# Altium footprint library Check-PcbLib.PcbLib: 7 footprints
Each footprint in its own frame and in the unit in brackets; x right, y up, seen from the top. Pads: shape width x height; smd on the part's side, far side on the other; paste and mask are expansions set on the pad; w line width, h text height; cw(c..) or ccw(c..) is an arc to the next point about the centre after c.
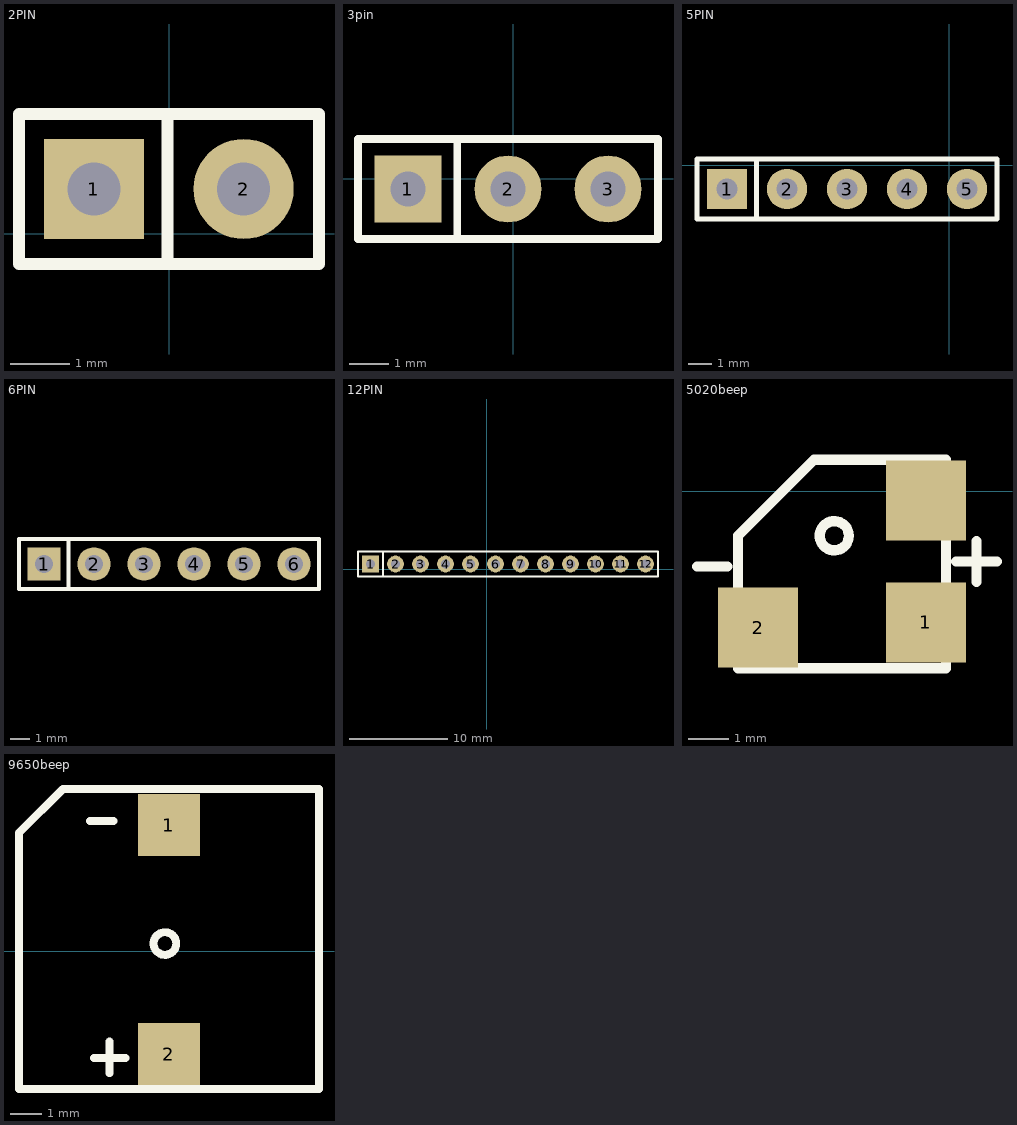
[diagram p0: the footprints below, top view; thin cyan lines are the x and y axes]

## 2PIN [mm]
pads (2):
  rect 1.7x1.7 hole 0.9: 1(-1.279,0.755)
  round 1.7 hole 0.9: 2(1.261,0.755)
Top Overlay:
  lines w0.2: -0.771,2.025 2.54,2.025 2.54,-0.515 -2.549,-0.515 -2.549,2.025 -0.644,2.025 ; -0.029,-0.495 -0.029,2.005
3D body "HDR2.54-1P.STEP": height 8.5, standoff -3, extent -0.009,-0.515 2.531,2.025
3D body "HDR2.54-1P.STEP": height 8.5, standoff -3, extent -2.549,-0.515 -0.009,2.025

## 3pin [mm]
pads (3):
  rect 1.7x1.7 hole 0.9: 1(-2.676,-0.261)
  round 1.7 hole 0.9: 2(-0.136,-0.261) 3(2.404,-0.261)
Top Overlay:
  lines w0.2: -2.168,1.009 3.674,1.009 3.674,-1.531 -3.946,-1.531 -3.946,1.009 -2.041,1.009 ; -1.426,-1.511 -1.426,0.989
3D body "HDR2.54-1P.STEP": height 8.5, standoff -3, extent 1.134,-1.531 3.674,1.009
3D body "HDR2.54-1P.STEP": height 8.5, standoff -3, extent -3.946,-1.531 -1.406,1.009
3D body "HDR2.54-1P.STEP": height 8.5, standoff -3, extent -1.406,-1.531 1.134,1.009

## 5PIN [mm]
pads (5):
  rect 1.7x1.7 hole 0.9: 1(-9.398,-1.016)
  round 1.7 hole 0.9: 2(-6.858,-1.016) 3(-4.318,-1.016) 4(-1.778,-1.016) 5(0.762,-1.016)
Top Overlay:
  lines w0.2: -8.148,-2.266 -8.148,0.234 ; -10.668,-2.286 2.032,-2.286 2.032,0.254 -8.763,0.254 -10.668,0.254 -10.668,-2.286
3D body "HDR2.54-1P.STEP": height 8.5, standoff -3, extent -0.508,-2.286 2.032,0.254
3D body "HDR2.54-1P.STEP": height 8.5, standoff -3, extent -5.588,-2.286 -3.048,0.254
3D body "HDR2.54-1P.STEP": height 8.5, standoff -3, extent -3.048,-2.286 -0.508,0.254
3D body "HDR2.54-1P.STEP": height 8.5, standoff -3, extent -10.668,-2.286 -8.128,0.254
3D body "HDR2.54-1P.STEP": height 8.5, standoff -3, extent -8.128,-2.286 -5.588,0.254

## 6PIN [mm]
pads (6):
  rect 1.7x1.7 hole 0.9: 1(-317.373,-38.862)
  round 1.7 hole 0.9: 2(-314.833,-38.862) 3(-312.293,-38.862) 4(-309.753,-38.862) 5(-307.213,-38.862) 6(-304.673,-38.862)
Top Overlay:
  lines w0.2: -316.123,-40.112 -316.123,-37.612 ; -318.643,-40.132 -303.403,-40.132 -303.403,-37.592 -316.738,-37.592 -318.643,-37.592 -318.643,-40.132
3D body "HDR2.54-1P.STEP": height 8.5, standoff -3, extent -305.943,-40.132 -303.403,-37.592
3D body "HDR2.54-1P.STEP": height 8.5, standoff -3, extent -308.483,-40.132 -305.943,-37.592
3D body "HDR2.54-1P.STEP": height 8.5, standoff -3, extent -313.563,-40.132 -311.023,-37.592
3D body "HDR2.54-1P.STEP": height 8.5, standoff -3, extent -311.023,-40.132 -308.483,-37.592
3D body "HDR2.54-1P.STEP": height 8.5, standoff -3, extent -318.643,-40.132 -316.103,-37.592
3D body "HDR2.54-1P.STEP": height 8.5, standoff -3, extent -316.103,-40.132 -313.563,-37.592

## 12PIN [mm]
pads (12):
  rect 1.7x1.7 hole 0.9: 1(-11.811,0.508)
  round 1.7 hole 0.9: 2(-9.271,0.508) 3(-6.731,0.508) 4(-4.191,0.508) 5(-1.651,0.508) 6(0.889,0.508) 7(3.429,0.508) 8(5.969,0.508) 9(8.509,0.508) 10(11.049,0.508) 11(13.589,0.508) 12(16.129,0.508)
Top Overlay:
  lines w0.2: -10.561,-0.742 -10.561,1.758 ; -13.081,-0.762 -13.081,1.778 -11.176,1.778 17.399,1.778 17.399,-0.762 -13.081,-0.762
3D body "HDR2.54-1P.STEP": height 8.5, standoff -3, extent -10.541,-0.762 -8.001,1.778
3D body "HDR2.54-1P.STEP": height 8.5, standoff -3, extent -13.081,-0.762 -10.541,1.778
3D body "HDR2.54-1P.STEP": height 8.5, standoff -3, extent -5.461,-0.762 -2.921,1.778
3D body "HDR2.54-1P.STEP": height 8.5, standoff -3, extent -8.001,-0.762 -5.461,1.778
3D body "HDR2.54-1P.STEP": height 8.5, standoff -3, extent -2.921,-0.762 -0.381,1.778
3D body "HDR2.54-1P.STEP": height 8.5, standoff -3, extent 2.159,-0.762 4.699,1.778
3D body "HDR2.54-1P.STEP": height 8.5, standoff -3, extent -0.381,-0.762 2.159,1.778
3D body "HDR2.54-1P.STEP": height 8.5, standoff -3, extent 7.239,-0.762 9.779,1.778
3D body "HDR2.54-1P.STEP": height 8.5, standoff -3, extent 4.699,-0.762 7.239,1.778
3D body "HDR2.54-1P.STEP": height 8.5, standoff -3, extent 9.779,-0.762 12.319,1.778
3D body "HDR2.54-1P.STEP": height 8.5, standoff -3, extent 14.859,-0.762 17.399,1.778
3D body "HDR2.54-1P.STEP": height 8.5, standoff -3, extent 12.319,-0.762 14.859,1.778

## 5020beep [mm] "5020beep"
pads (3):
  rect 2x2 smd: 1(-12.446,-3.283) 2(-16.637,-3.41) ""(-12.446,-0.235)
Top Overlay:
  circle w0.254: c-14.732,-1.117 r0.364
  lines w0.254: -18.161,-1.886 -17.399,-1.886 ; -11.684,-1.759 -10.668,-1.759 ; -11.176,-2.267 -11.176,-1.251 ; -17.138,-4.426 -11.938,-4.426 -11.938,0.781 -15.24,0.781 -17.138,-1.117 -17.138,-4.426
3D body: height 2.01, standoff 0, extent -15.232,-1.616 -14.236,-0.618
3D body: height 2, standoff 0, extent -17.145,-4.363 -11.938,0.717

## 9650beep [mm] "5020beep"
pads (2):
  rect 2x2 smd: 1(-12.319,4.064) 2(-12.319,-3.302)
Top Overlay:
  circle w0.254: c-12.446,0.254 r0.364
  lines w0.254: -14.859,4.191 -14.097,4.191 ; -14.732,-3.429 -13.716,-3.429 ; -14.224,-3.918 -14.224,-2.902 ; -7.538,-4.426 -17.138,-4.426 -17.138,3.817 -15.729,5.226 -7.493,5.226 ; -7.493,-4.426 -7.493,5.174
3D body: height 2, standoff 0, extent -17.138,-4.426 -7.493,5.226
3D body: height 2.01, standoff 0, extent -12.946,-0.245 -11.95,0.753